# EAGLE library part TDA1521Q (library Audio-Power-amlifier)
2 x 12 W hi-fi audio power amplifier http://www.datasheetcatalog.org/datasheet/philips/TDA1521Q.pdf
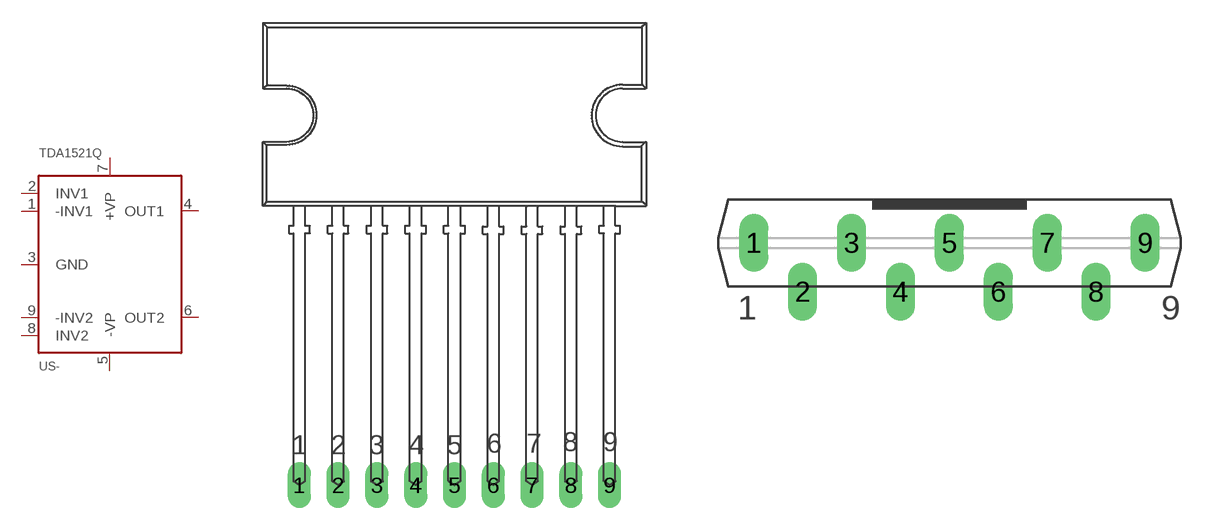
[diagram p0: symbol with the pads of SOT131-2H; footprints SOT131-2H, SOT131-2VX]

Designator prefix US-

## TDA1521QPION  [SOT131-2H]
1  -INV1  in
2  INV1  in
3  GND  in
4  OUT1  in
5  -VP  in
6  OUT2  in
7  +VP  in
8  INV2  in
9  -INV2  in

## TDA1521QPION-X  [SOT131-2VX]
Pads as for SOT131-2H

## Footprint SOT131-2H (pad centres in mm)
drill 1 long: 1 -10.16,0; 2 -7.62,0; 3 -5.08,0; 4 -2.54,0; 5 0,0; 6 2.54,0; 7 5.08,0; 8 7.62,0; 9 10.16,0

## Footprint SOT131-2VX (pad centres in mm)
drill 1 long: 1 -10.16,0; 2 -7.62,-2.54; 3 -5.08,0; 4 -2.54,-2.54; 5 0,0; 6 2.54,-2.54; 7 5.08,0; 8 7.62,-2.54; 9 10.16,0